# Altium footprint library 杂项.PcbLib: 10 footprints
Each footprint in its own frame and in the unit in brackets; x right, y up, seen from the top. Pads: shape width x height; smd on the part's side, far side on the other; paste and mask are expansions set on the pad; w line width, h text height; cw(c..) or ccw(c..) is an arc to the next point about the centre after c.
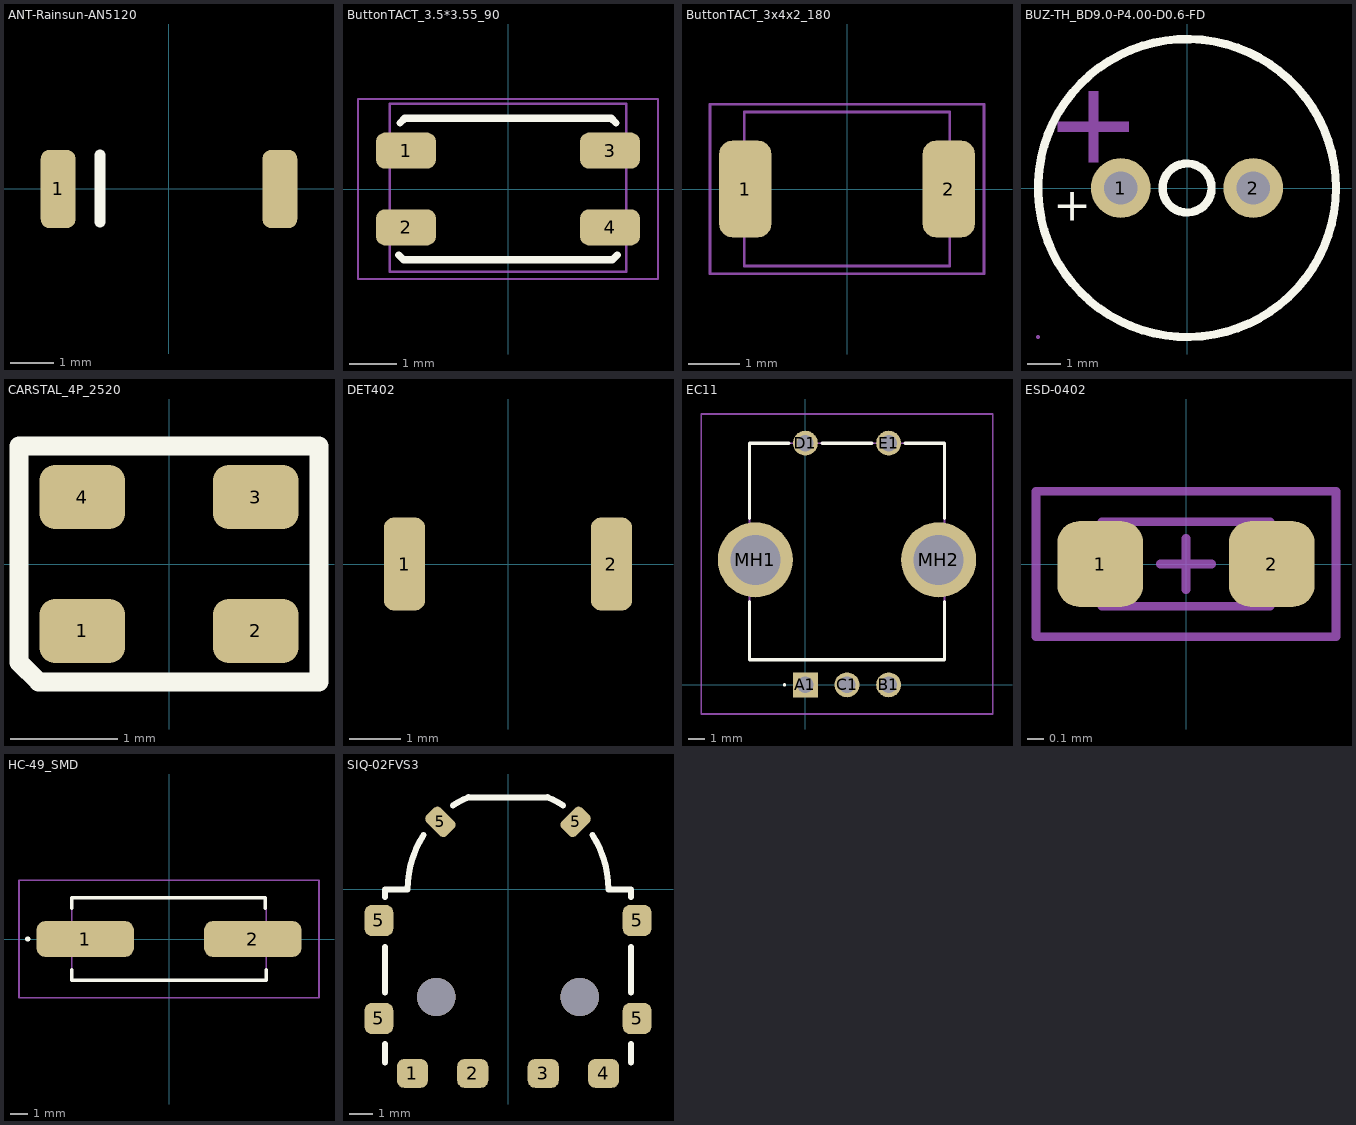
[diagram p0: the footprints below, top view; thin cyan lines are the x and y axes]

## ANT-Rainsun-AN5120 [mm] "选择焊盘"
height 4.3
pads (2):
  rrect50% 0.8x1.8 smd: 1(-2.54,0) ""(2.563,0)
Top Overlay:
  lines w0.254: -1.575,-0.762 -1.575,0.787
3D body "123.stp": height 1.32, standoff -0.01, extent -2.573,-0.911 2.542,0.935

## ButtonTACT_3.5*3.55_90 [mil]
height 169.29
pads (4):
  rrect50% 50x30 smd: 1(-85,32) 2(-85,-32) 3(85,32) 4(85,-32)
Top Overlay:
  lines w6: -91,-55 -87,-59 87,-59 91,-55 ; -90,55 -85.98,59 86,59 90,55
Mechanical 13:
  lines w2: -98.43,-68.9 98.43,-68.9 98.43,71 -98.43,71 -98.43,-68.9
Mechanical 14:
  lines w2: -125,-75 125,-75 125,75 -125,75 -125,-75
3D body "User Library-KMS231G.STEP": height 55.91, standoff -0.77, extent -90.1,-54.76 91,85

## ButtonTACT_3x4x2_180 [mil]
height 78.74
pads (2):
  rrect50% 40x74 smd: 1(-78,0) 2(78,0)
Mechanical 13:
  lines w2: -78.74,-59.06 -78.74,59.06 78.74,59.06 78.75,-59.05 -78.73,-59.05
Mechanical 14:
  lines w2: -105,-65 -105,65 105,65 105,-65 -105,-65
3D body "20041.stp": height 62.99, standoff 0, extent -78.73,-49.2 78.75,49.22

## BUZ-TH_BD9.0-P4.00-D0.6-FD [mm]
pads (2):
  round 1.8 hole 1: 1(-2,0) 2(2,0)
Top Overlay:
  circle w0.254: c0,0 r0.741
  circle w0.254: c0,0 r4.5
  text "+" at -4.04,-0.989 h1
Mechanical 6:
  region: -2.975,0.779 -2.975,2.919 -2.685,2.919 -2.685,0.779
  region: -3.9,1.995 -1.76,1.995 -1.76,1.705 -3.9,1.705
Mechanical 15:
  region: 2.3,0 2.299,0.059 2.252,0.167 2.168,0.25 2.059,0.294 1.941,0.294 1.832,0.25 1.748,0.167 1.701,0.059 1.7,0 1.701,-0.059 1.748,-0.167 1.832,-0.25 1.941,-0.294 2.059,-0.294 2.168,-0.25 2.252,-0.167 2.299,-0.059
  region: -1.7,0 -1.701,0.059 -1.748,0.167 -1.832,0.25 -1.941,0.294 -2.059,0.294 -2.168,0.25 -2.252,0.167 -2.299,0.059 -2.3,0 -2.299,-0.059 -2.252,-0.167 -2.168,-0.25 -2.059,-0.294 -1.941,-0.294 -1.832,-0.25 -1.748,-0.167 -1.701,-0.059
  region: -4.441,-4.5 -4.441,-4.475 -4.476,-4.44 -4.526,-4.44 -4.561,-4.475 -4.561,-4.5 -4.561,-4.525 -4.526,-4.56 -4.476,-4.56 -4.441,-4.525
  lines w0.051: -0.003,-4.5 cw(c-0.001,0) -0.001,4.5 cw(c-0.001,0) 0,-4.5 -0.003,-4.5
3D body "QMB-09B-03.stp": height 5.8, standoff -5, extent -4.5,-4.5 4.5,4.5

## CARSTAL_4P_2520 [mm] "CARSTAL_2520"
height 0.8
pads (4):
  rrect50% 0.8x0.6 smd: 1(-0.81,-0.625) 2(0.81,-0.625) 3(0.81,0.625) 4(-0.81,0.625)
Top Overlay:
  lines w0.178: -1.4,-0.917 -1.217,-1.1 1.4,-1.1 1.4,1.1 -1.4,1.1 -1.4,-0.917
3D body "User Library-Crystal NDK NX2520SA series.STEP": height 0.55, standoff 0, extent -1.3,-1.05 1.3,1.05

## DET402 [mm]
height 4.3
pads (2):
  rrect50% 0.8x1.8 smd: 1(-2,0) 2(2,0)
3D body "User Library-DET402.STEP": height 2.03, standoff -0.02, extent -2.45,-1.5 2.44,1.5

## EC11 [mm]
pads (7):
  rect 1.5x1.5 hole 1: A1(0,0)
  round 1.5 hole 1: B1(5,0) C1(2.5,0) D1(0,14.5) E1(5,14.5)
  round 4.5 hole 3: MH1(-3,7.5) MH2(8,7.5)
Top Overlay:
  lines w0.1: -1.25,-0.05 ccw(c-1.25,0) -1.25,0.05 ccw(c-1.25,0) -1.25,-0.05
  lines w0.2: -3.35,5 -3.35,1.5 8.35,1.5 8.35,5 ; -3.35,10 -3.35,14.5 -1,14.5 ; 1,14.5 4,14.5 ; 6,14.5 8.35,14.5 8.35,10
Mechanical 15:
  lines w0.1: -3.35,1.5 8.35,1.5 8.35,14.5 -3.35,14.5 -3.35,1.5
Mechanical 20:
  lines w0.1: -6.25,-1.75 11.25,-1.75 11.25,16.25 -6.25,16.25 -6.25,-1.75
3D body "EC111012010H.stp": height 25, standoff -3.5, extent -4.005,-0.232 9.085,14.718

## ESD-0402 [mil]
pads (2):
  rrect50% 20x20 smd: 1(-20,0) 2(20,0)
Mechanical 13:
  lines w2: -6,0 6,0 ; 0,-6 0,6 ; -19.69,-9.84 -19.69,9.84 19.68,9.84 19.68,-9.84 -19.69,-9.84
Mechanical 14:
  lines w2: -35,-17 35,-17 35,17 -35,17 -35,-17
3D body "RESC1005X03L.step": height 13.78, standoff 0, extent -19.68,-9.84 19.69,9.85

## HC-49_SMD [mm]
pads (2):
  rrect50% 5.55x2.05 smd: 1(-4.775,0) 2(4.775,0)
Top Overlay:
  lines w0.2: -8.1,0 ccw(c-8.05,0) -8,0 ; -8.1,0 cw(c-8.05,0) -8,0 ; -8.1,0 ccw(c-8.05,0) -8,0 ; -5.55,-2.35 5.55,-2.35 ; -5.55,-2.35 5.55,-2.35 ; -5.55,-2.35 -5.55,-1.75 -5.55,-2.35 ; 5.5,2.35 -5.5,2.35 5.5,2.35 ; 5.5,2.35 5.5,1.75 5.5,2.35 ; 5.55,-2.35 5.55,-1.75 5.55,-2.35 ; -5.55,1.75 -5.55,2.35 -5.55,1.75
Mechanical 13:
  lines w0.1: -5.55,-2.35 5.55,-2.35 5.55,2.35 -5.55,2.35 -5.55,-2.35
Mechanical 15:
  lines w0.1: -8.55,-3.35 8.55,-3.35 8.55,3.35 -8.55,3.35 -8.55,-3.35
3D body "XT9M20ANA8M.stp": height 4.75, standoff 0, extent -6.155,-2.35 6.155,2.35

## SIQ-02FVS3 [mm]
height 4.3
pads (10):
  rrect50% 1.3x1.2 smd: 1(-4,-7.7) 2(-1.475,-7.7) 3(1.475,-7.7) 4(4,-7.7)
  rrect50% 1.2x1.3 smd: 5(-5.4,-5.4) 5(-5.4,-1.3) 5(5.4,-5.4) 5(5.4,-1.3)
  rrect50% 0.85x1.2 smd rot 45: 5(-2.828,2.828)
  rrect50% 0.85x1.2 smd rot 135: 5(2.828,2.828)
via -3,-4.5 diameter 1.6 hole 1.6
via 3,-4.5 diameter 1.6 hole 1.6
Top Overlay:
  lines w0.254: -5.15,-7.25 -5.15,-6.477 ; -5.15,-4.318 -5.15,-2.402 ; -5.15,-0.324 -5.15,0 -4.2,0 cw(c0,0) -3.533,2.271 ; -2.298,3.515 cw(c0,0) -1.655,3.86 ; -1.655,3.85 1.655,3.85 ; 1.655,3.86 cw(c0,0) 2.298,3.515 ; 3.533,2.271 cw(c0,0) 4.2,0 5.15,0 5.15,-0.324 ; 5.15,-7.25 5.15,-6.477 ; 5.15,-4.318 5.15,-2.402
3D body "RE.step": height 4.06, standoff -0.44, extent -7.199,-7.5 7.199,7.25